# Altium footprint library DG1285002P14.PcbLib: 1 footprints
Each footprint in its own frame and in the unit in brackets; x right, y up, seen from the top. Pads: shape width x height; smd on the part's side, far side on the other; paste and mask are expansions set on the pad; w line width, h text height; cw(c..) or ccw(c..) is an arc to the next point about the centre after c.
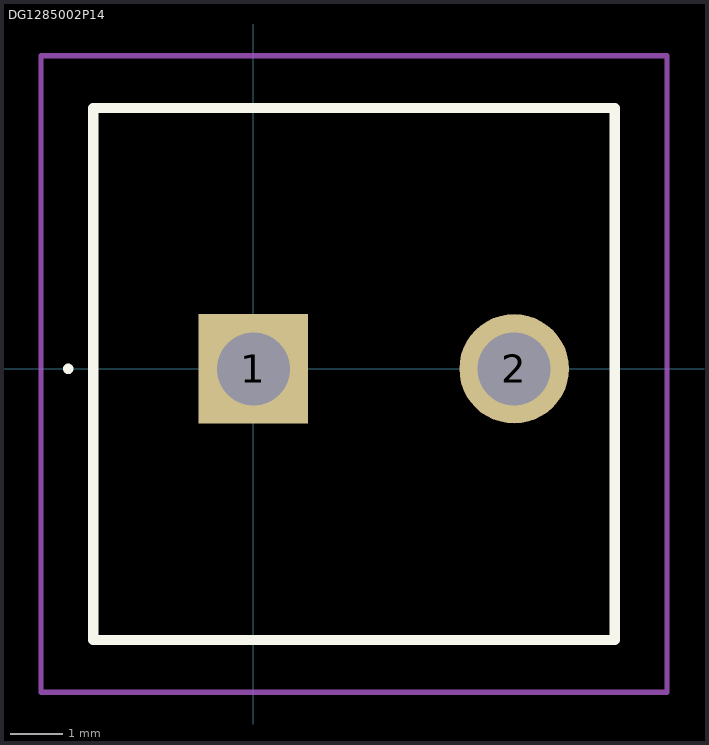
[diagram p0: the footprint, top view; thin cyan lines are the x and y axes]

## DG1285002P14 [mm]
pads (2):
  rect 2.1x2.1 hole 1.4: 1(0,0)
  round 2.1 hole 1.4: 2(5,0)
Top Overlay:
  lines w0.1: -3.6,0 -3.6,0 ; -3.6,0 ccw(c-3.55,0) -3.5,0 ; -3.6,0 cw(c-3.55,0) -3.5,0 ; -3.6,0 -3.6,0 ; -3.6,0 ccw(c-3.55,0) -3.5,0 ; -3.5,0 -3.5,0
  lines w0.2: -3.07,-5.2 -3.07,5 6.93,5 6.93,-5.2 -3.07,-5.2
Mechanical 15:
  lines w0.1: -3.07,-5.2 6.93,-5.2 6.93,5 -3.07,5 -3.07,-5.2
Mechanical 20:
  lines w0.1: -4.07,-6.2 7.93,-6.2 7.93,6 -4.07,6 -4.07,-6.2